# Altium footprint library Switch.PcbLib: 1 footprints
Each footprint in its own frame and in the unit in brackets; x right, y up, seen from the top. Pads: shape width x height; smd on the part's side, far side on the other; paste and mask are expansions set on the pad; w line width, h text height; cw(c..) or ccw(c..) is an arc to the next point about the centre after c.
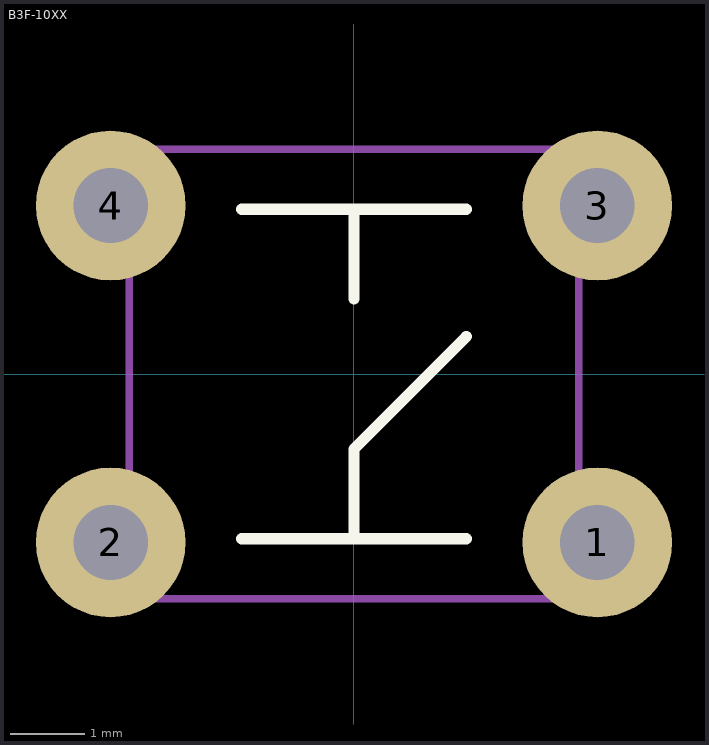
[diagram p0: the footprint, top view; thin cyan lines are the x and y axes]

## B3F-10XX [mm] "Omron Tactile Switch, Flat Plunger Type"
height 5
pads (4):
  round 2 hole 1: 1(3.25,-2.25) 2(-3.25,-2.25) 3(3.25,2.25) 4(-3.25,2.25)
Top Overlay:
  lines w0.15: -1.5,-2.2 1.5,-2.2 ; -1.5,2.2 1.5,2.2 ; 0,-2.2 0,-1 1.5,0.5 ; 0,1 0,2.2
Mechanical 13:
  lines w0.1: -3,-3 3,-3 3,3 -3,3 -3,-3
3D body: height 4, standoff 0, extent -3,-3 3,3